# EAGLE library part TEXAS_INSTRUMENTS-TDMI_DVI_SERIALIZER-TFP410_PAP_64 (library Module_ICs)
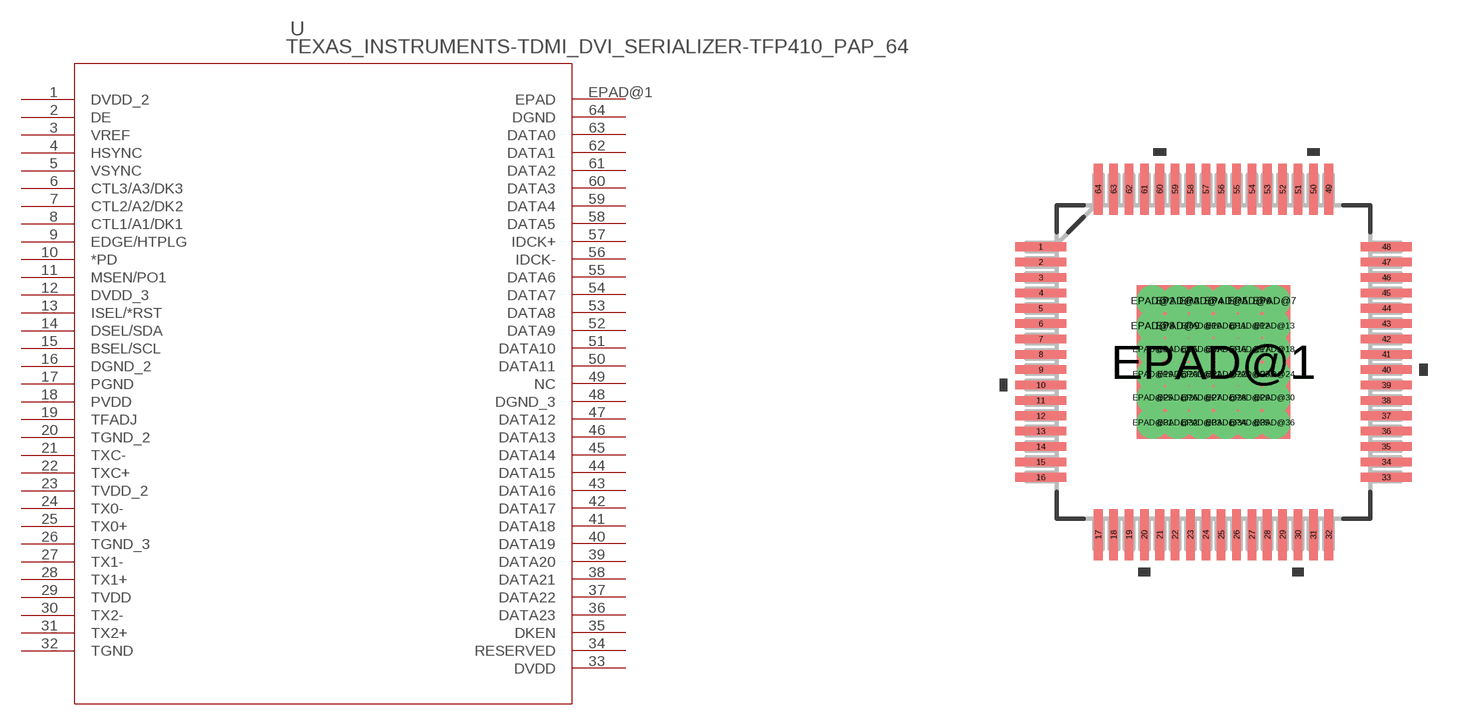
[diagram p32: symbol with the pads of TEXAS_INSTRUMENTS-TDMI_DVI_SERIALIZER-TFP410_PAP_64; footprint TEXAS_INSTRUMENTS-TDMI_DVI_SERIALIZER-TFP410_PAP_64]

Designator prefix U

## TEXAS_INSTRUMENTS-TDMI_DVI_SERIALIZER-TFP410_PAP_64 (DATASHEETURL: httpwww.ti.comlitgpnTFP410; FAMILY_NAME: PANELBUS DVI; GENERIC_PART_NUMBER: TFP410; INDUSTRY_STD_PKG_TYPE: HTQFP; MANUFACTURER: Texas Instruments; MANUFACTURER_PART_NUMBER: tfp410_pap_64; PACKAGE_DESIGNATOR: PAP; PIN_COUNT: 64; VENDOR: Texas Instruments)  [TEXAS_INSTRUMENTS-TDMI_DVI_SERIALIZER-TFP410_PAP_64]
1  DVDD_2  pwr
2  DE  in
3  VREF  in
4  HSYNC  in
5  VSYNC  in
6  CTL3/A3/DK3  in
7  CTL2/A2/DK2  in
8  CTL1/A1/DK1  in
9  EDGE/HTPLG  pas
10  *PD  in
11  MSEN/PO1  out
12  DVDD_3  pwr
13  ISEL/*RST  in
14  DSEL/SDA
15  BSEL/SCL  in
16  DGND_2  pwr
17  PGND  pwr
18  PVDD  pwr
19  TFADJ  in
20  TGND_2  pwr
21  TXC-  out
22  TXC+  out
23  TVDD_2  pwr
24  TX0-  out
25  TX0+  out
26  TGND_3  pwr
27  TX1-  out
28  TX1+  out
29  TVDD  pwr
30  TX2-  out
31  TX2+  out
32  TGND  pwr
33  DVDD  pwr
34  RESERVED  pas
35  DKEN  in
36  DATA23  in
37  DATA22  in
38  DATA21  in
39  DATA20  in
40  DATA19  in
41  DATA18  in
42  DATA17  in
43  DATA16  in
44  DATA15  in
45  DATA14  in
46  DATA13  in
47  DATA12  in
48  DGND_3  pwr
49  NC  pas
50  DATA11  in
51  DATA10  in
52  DATA9  in
53  DATA8  in
54  DATA7  in
55  DATA6  in
56  IDCK-  in
57  IDCK+  in
58  DATA5  in
59  DATA4  in
60  DATA3  in
61  DATA2  in
62  DATA1  in
63  DATA0  in
64  DGND  pwr
EPAD@1  EPAD  pas

## Footprint TEXAS_INSTRUMENTS-TDMI_DVI_SERIALIZER-TFP410_PAP_64 (pad centres in mm)
smd 1.664 x 0.279: 1 -5.62,3.75; 2 -5.62,3.25; 3 -5.62,2.75; 4 -5.62,2.25; 5 -5.62,1.75; 6 -5.62,1.25; 7 -5.62,0.75; 8 -5.62,0.25; 9 -5.62,-0.25; 10 -5.62,-0.75; 11 -5.62,-1.25; 12 -5.62,-1.75; 13 -5.62,-2.25; 14 -5.62,-2.75; 15 -5.62,-3.25; 16 -5.62,-3.75; 33 5.62,-3.75; 34 5.62,-3.25; 35 5.62,-2.75; 36 5.62,-2.25; 37 5.62,-1.75; 38 5.62,-1.25; 39 5.62,-0.75; 40 5.62,-0.25; 41 5.62,0.25; 42 5.62,0.75; 43 5.62,1.25; 44 5.62,1.75; 45 5.62,2.25; 46 5.62,2.75; 47 5.62,3.25; 48 5.62,3.75
smd 0.279 x 1.664: 17 -3.75,-5.62; 18 -3.25,-5.62; 19 -2.75,-5.62; 20 -2.25,-5.62; 21 -1.75,-5.62; 22 -1.25,-5.62; 23 -0.75,-5.62; 24 -0.25,-5.62; 25 0.25,-5.62; 26 0.75,-5.62; 27 1.25,-5.62; 28 1.75,-5.62; 29 2.25,-5.62; 30 2.75,-5.62; 31 3.25,-5.62; 32 3.75,-5.62; 49 3.75,5.62; 50 3.25,5.62; 51 2.75,5.62; 52 2.25,5.62; 53 1.75,5.62; 54 1.25,5.62; 55 0.75,5.62; 56 0.25,5.62; 57 -0.25,5.62; 58 -0.75,5.62; 59 -1.25,5.62; 60 -1.75,5.62; 61 -2.25,5.62; 62 -2.75,5.62; 63 -3.25,5.62; 64 -3.75,5.62
smd 5 x 5: EPAD@1 0,0
drill 0.508 pad 0.508: EPAD@2 -1.981,1.981; EPAD@3 -1.168,1.981; EPAD@4 -0.406,1.981; EPAD@5 0.406,1.981; EPAD@6 1.168,1.981; EPAD@7 1.981,1.981; EPAD@8 -1.981,1.168; EPAD@9 -1.168,1.168; EPAD@10 -0.406,1.168; EPAD@11 0.406,1.168; EPAD@12 1.168,1.168; EPAD@13 1.981,1.168; EPAD@14 -1.981,0.406; EPAD@15 -1.168,0.406; EPAD@16 0.406,0.406; EPAD@17 1.168,0.406; EPAD@18 1.981,0.406; EPAD@19 -1.981,-0.406; EPAD@20 -1.168,-0.406; EPAD@21 -0.406,-0.406; EPAD@22 0.406,-0.406; EPAD@23 1.168,-0.406; EPAD@24 1.981,-0.406; EPAD@25 -1.981,-1.168; EPAD@26 -1.168,-1.168; EPAD@27 -0.406,-1.168; EPAD@28 0.406,-1.168; EPAD@29 1.168,-1.168; EPAD@30 1.981,-1.168; EPAD@31 -1.981,-1.981; EPAD@32 -1.168,-1.981; EPAD@33 -0.406,-1.981; EPAD@34 0.406,-1.981; EPAD@35 1.168,-1.981; EPAD@36 1.981,-1.981; EPAD@37 -0.406,0.406